# EAGLE library part MOLEX_SMT_0P1_HEADER_15 (library stepOSP)
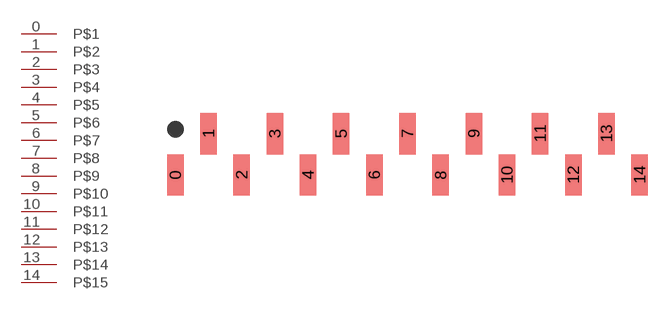
[diagram p34: symbol with the pads of MOLEX_SMT_HEADER_15; footprint MOLEX_SMT_HEADER_15]

Designator prefix -

## MOLEX_SMT_0P1_HEADER_15  [MOLEX_SMT_HEADER_15]
0  P$1
1  P$2
2  P$3
3  P$4
4  P$5
5  P$6
6  P$7
7  P$8
8  P$9
9  P$10
10  P$11
11  P$12
12  P$13
13  P$14
14  P$15

## Footprint MOLEX_SMT_HEADER_15 (pad centres in mm)
smd 1.27 x 3.175: 0 0,-1.587; 1 2.54,1.587; 2 5.08,-1.587; 3 7.62,1.587; 4 10.16,-1.587; 5 12.7,1.587; 6 15.24,-1.587; 7 17.78,1.587; 8 20.32,-1.587; 9 22.86,1.587; 10 25.4,-1.587; 11 27.94,1.587; 12 30.48,-1.587; 13 33.02,1.587; 14 35.56,-1.587